# Altium footprint library Low Loss Power Path Controller.PcbLib: 1 footprints
Each footprint in its own frame and in the unit in brackets; x right, y up, seen from the top. Pads: shape width x height; smd on the part's side, far side on the other; paste and mask are expansions set on the pad; w line width, h text height; cw(c..) or ccw(c..) is an arc to the next point about the centre after c.
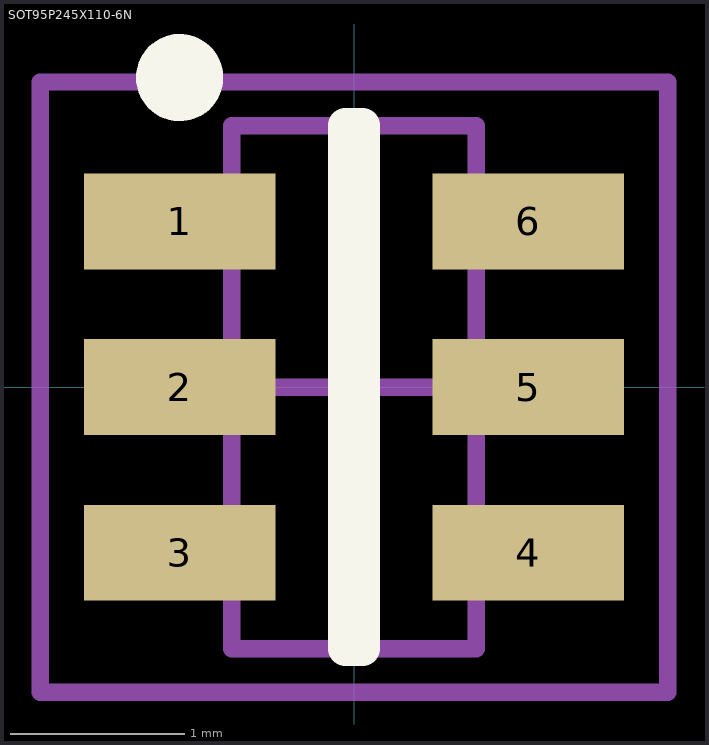
[diagram p0: the footprint, top view; thin cyan lines are the x and y axes]

## SOT95P245X110-6N [mm] "SOT23, 6-Leads, Body 3.0x2.6mm (max), Pitch 0.95mm, IPC Medium Density"
height 1.1
pads (6):
  rect 1.1x0.55 smd: 1(-1,0.95) 2(-1,0) 3(-1,-0.95) 4(1,-0.95) 5(1,0) 6(1,0.95)
Top Overlay:
  circle w0.25: c-1,1.775 r0.125
  lines w0.2: -0.05,-1.5 -0.05,1.5 0.05,1.5 0.05,-1.5 -0.05,-1.5
Mechanical 13:
  lines w0.1: -0.7,-1.5 0.7,-1.5 0.7,1.5 -0.7,1.5 -0.7,-1.5
Mechanical 15:
  lines w0.1: -0.5,0 0.5,0 ; 0,-0.5 0,0.5 ; -1.8,-1.75 1.8,-1.75 1.8,1.75 -1.8,1.75 -1.8,-1.75
3D body: height 1.1, standoff 0.05, extent -0.7,-1.5 0.7,1.5